# Altium footprint library DXPpcb.PCBLIB: 575 footprints (part 2 of 36)
Each footprint in its own frame and in the unit in brackets; x right, y up, seen from the top. Pads: shape width x height; smd on the part's side, far side on the other; paste and mask are expansions set on the pad; w line width, h text height; cw(c..) or ccw(c..) is an arc to the next point about the centre after c.
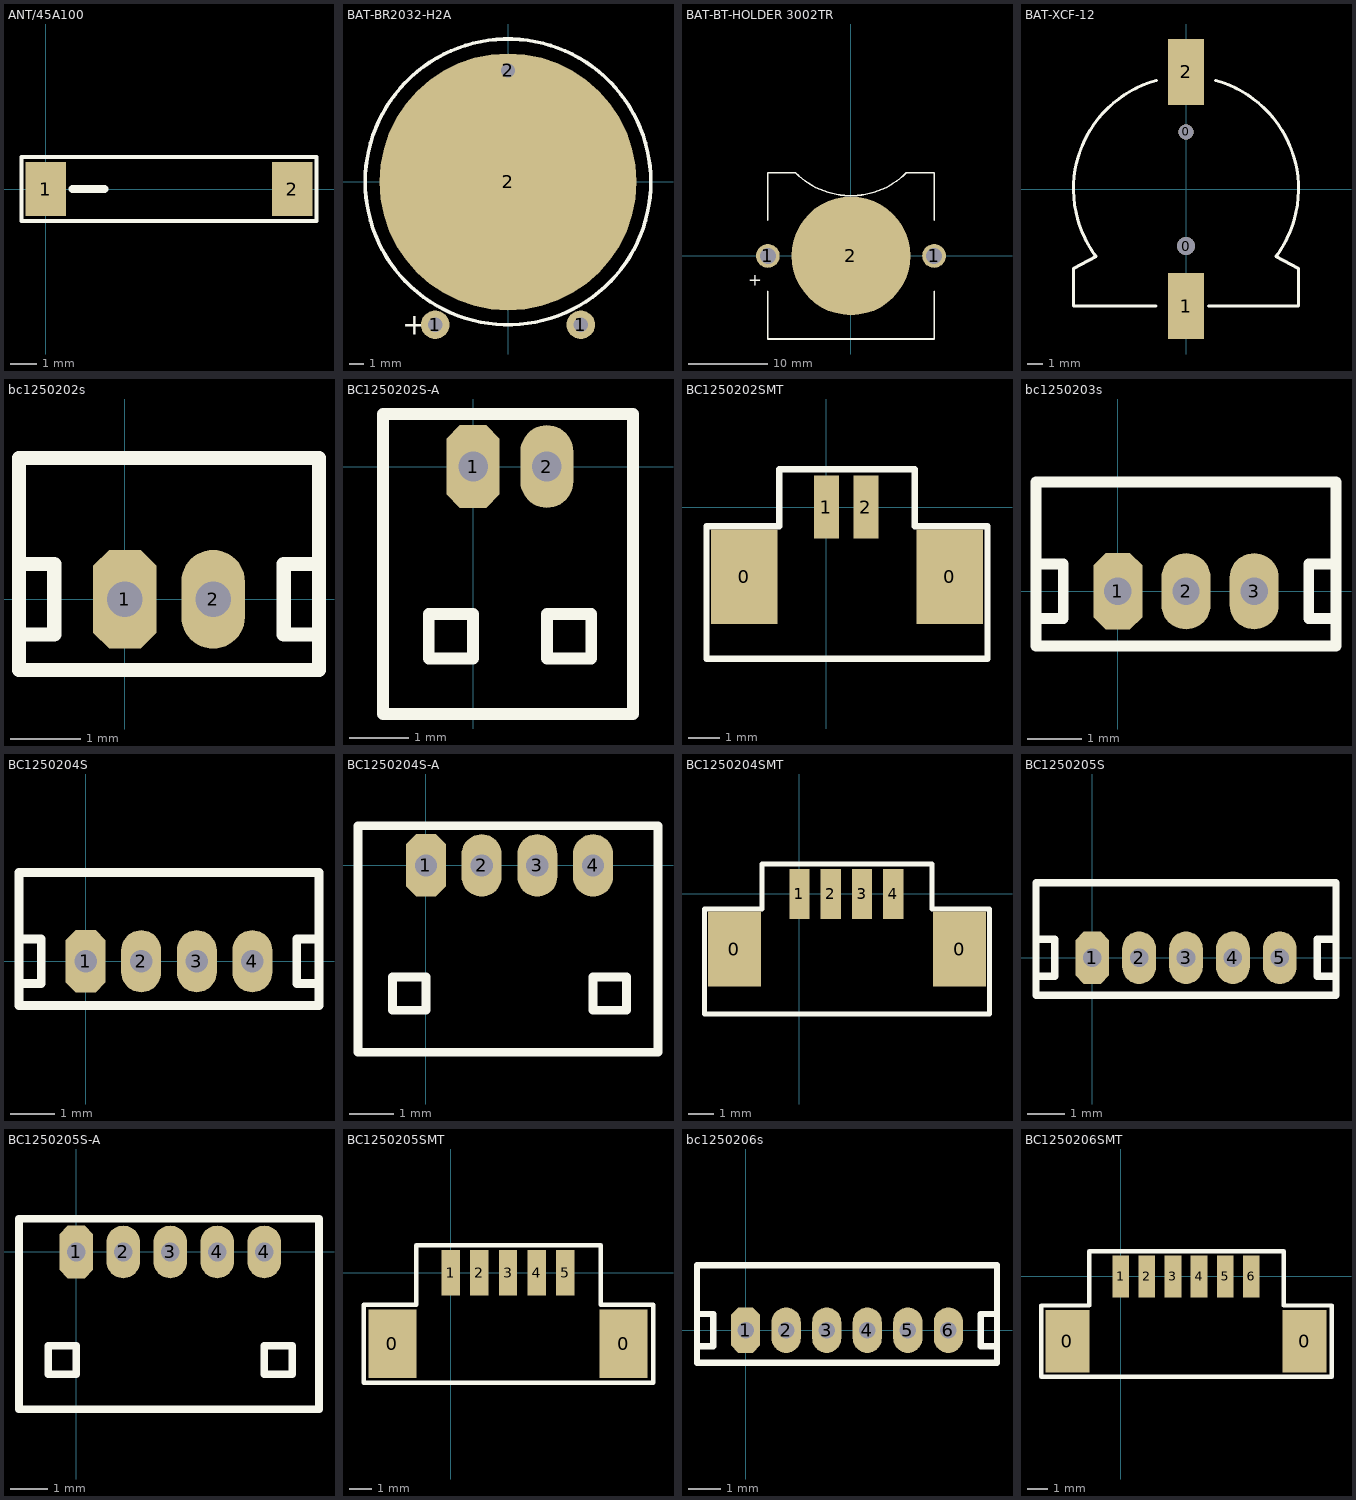
[diagram p1: the footprints below, top view; thin cyan lines are the x and y axes]

## ANT/45A100 [mm]
pads (2):
  rect 1.5x2 smd: 1(0,0) 2(9.2,0)
TopOverlay:
  lines w0.15: -0.9,-1.2 10.1,-1.2 10.1,1.2 -0.9,1.2 -0.9,-1.2
  lines w0.3: 1,0 2.2,0

## BAT-BR2032-H2A [mm]
pads (4):
  round 2 hole 1: 1(-5.1,-10) 1(5.1,-10) 2(0,7.8)
  round 18 smd: 2(0,0)
TopOverlay:
  circle w0.254: c0,0 r10
  text "+" at -7.4,-10.7 h1.5

## BAT-BT-HOLDER 3002TR [mm]
pads (3):
  round 3 hole 2: 1(-10.5,0) 1(10.5,0)
  round 15 smd: 2(0,0)
TopOverlay:
  lines w0.2: -10.5,-4.5 -10.5,-10.5 10.5,-10.5 10.5,-4.5 ; -10.5,4.5 -10.5,10.5 -7,10.5 ccw(c0,17.5) 7,10.5 10.5,10.5 10.5,4.5
  text "+" at -13,-3.8 h1.5

## BAT-XCF-12 [mm]
pads (4):
  round 1.2 hole 1.2: 0(0,-3.8)
  round 1 hole 1: 0(0,3.8)
  rect 2.4x4.4 smd: 1(0,-7.8) 2(0,7.8)
TopOverlay:
  lines w0.2: -2,-7.8 -7.5,-7.8 -7.5,-5.3 -6,-4.5 cw(c0,0) -1.982,7.233 ; 1.5,-7.8 7.5,-7.8 7.5,-5.3 6,-4.5 ccw(c0,0) 1.982,7.233

## bc1250202s [mm]
pads (2):
  oct 0.9x1.4 hole 0.5: 1(0,0)
  oval 0.9x1.4 hole 0.5: 2(1.25,0)
TopOverlay:
  lines w0.2: -1.5,-0.5 -1,-0.5 -1,0.5 -1.5,0.5 ; 2.75,-0.5 2.25,-0.5 2.25,0.5 2.75,0.5 ; -1.5,-1 -1.5,2 2.75,2 2.75,-1 -1.5,-1

## BC1250202S-A [mm]
pads (2):
  oct 0.9x1.4 hole 0.5: 1(0,0)
  oval 0.9x1.4 hole 0.5: 2(1.25,0)
TopOverlay:
  lines w0.2: -1.524,-4.191 2.707,-4.191 2.707,0.889 -1.524,0.889 -1.524,-4.191 ; -0.75,-3.25 0,-3.25 0,-2.5 -0.75,-2.5 -0.75,-3.25 ; 1.25,-3.25 2,-3.25 2,-2.5 1.25,-2.5 1.25,-3.25

## BC1250202SMT [mm]
pads (4):
  rect 2.1x3 smd: 0(-2.6,-2.2) 0(3.9,-2.2)
  rect 0.8x2 smd: 1(0,0) 2(1.25,0)
TopOverlay:
  lines w0.2: -3.8,-4.8 5.1,-4.8 5.1,-0.6 2.8,-0.6 2.8,1.2 -1.5,1.2 -1.5,-0.6 -3.8,-0.6 -3.8,-4.8

## bc1250203s [mm]
pads (3):
  oct 0.9x1.4 hole 0.5: 1(0,0)
  oval 0.9x1.4 hole 0.5: 2(1.25,0) 3(2.5,0)
TopOverlay:
  lines w0.2: -1.5,-0.5 -1,-0.5 -1,0.5 -1.5,0.5 ; 4,-0.5 3.5,-0.5 3.5,0.5 4,0.5 ; -1.5,-1 -1.5,2 4,2 4,-1 -1.5,-1

## BC1250204S [mm]
pads (4):
  oct 0.9x1.4 hole 0.5: 1(0,0)
  oval 0.9x1.4 hole 0.5: 2(1.25,0) 3(2.5,0) 4(3.75,0)
TopOverlay:
  lines w0.2: -1.5,-0.5 -1,-0.5 -1,0.5 -1.5,0.5 ; 5.2,-1 -1.5,-1 -1.5,2 5.2,2 ; 5.25,-1 5.25,2 ; 5.25,-0.5 4.75,-0.5 4.75,0.5 5.25,0.5

## BC1250204S-A [mm]
pads (4):
  oct 0.9x1.4 hole 0.5: 1(0,0)
  oval 0.9x1.4 hole 0.5: 2(1.25,0) 3(2.5,0) 4(3.75,0)
TopOverlay:
  lines w0.2: -1.524,-4.191 5.207,-4.191 5.207,0.889 -1.524,0.889 -1.524,-4.191 ; -0.75,-3.25 0,-3.25 0,-2.5 -0.75,-2.5 -0.75,-3.25 ; 3.75,-3.25 4.5,-3.25 4.5,-2.5 3.75,-2.5 3.75,-3.25

## BC1250204SMT [mm]
pads (6):
  rect 2.1x3 smd: 0(-2.6,-2.2) 0(6.4,-2.2)
  rect 0.8x2 smd: 1(0,0) 2(1.25,0) 3(2.5,0) 4(3.75,0)
TopOverlay:
  lines w0.2: -3.8,-4.8 -3.8,-0.6 -1.5,-0.6 -1.5,1.2 5.3,1.2 5.3,-0.6 7.6,-0.6 7.6,-4.8 -3.8,-4.8

## BC1250205S [mm]
pads (5):
  oct 0.9x1.4 hole 0.5: 1(0,0)
  oval 0.9x1.4 hole 0.5: 2(1.25,0) 3(2.5,0) 4(3.75,0) 5(5,0)
TopOverlay:
  lines w0.2: -1.5,-0.5 -1,-0.5 -1,0.5 -1.5,0.5 ; 6.5,-0.5 6,-0.5 6,0.5 6.5,0.5 ; -1.5,-1 -1.5,2 6.5,2 6.5,-1 -1.5,-1

## BC1250205S-A [mm]
pads (5):
  oct 0.9x1.4 hole 0.5: 1(0,0)
  oval 0.9x1.4 hole 0.5: 2(1.25,0) 3(2.5,0) 4(3.75,0) 4(5,0)
TopOverlay:
  lines w0.2: -1.524,-4.191 -1.524,0.889 6.457,0.889 6.457,-4.191 -1.524,-4.191 ; -0.75,-3.25 -0.75,-2.5 0,-2.5 0,-3.25 -0.75,-3.25 ; 5,-3.25 5.75,-3.25 5.75,-2.5 5,-2.5 5,-3.25

## BC1250205SMT [mm]
pads (7):
  rect 2.1x3 smd: 0(-2.55,-3.1) 0(7.55,-3.1)
  rect 0.8x2 smd: 1(0,0) 2(1.25,0) 3(2.5,0) 4(3.75,0) 5(5,0)
TopOverlay:
  lines w0.2: -3.8,-4.8 8.85,-4.8 8.85,-1.4 6.55,-1.4 6.55,1.2 -1.5,1.2 -1.5,-1.4 -3.8,-1.4 -3.8,-4.8

## bc1250206s [mm]
pads (6):
  oct 0.9x1.4 hole 0.5: 1(0,0)
  oval 0.9x1.4 hole 0.5: 2(1.25,0) 3(2.5,0) 4(3.75,0) 5(5,0) 6(6.25,0)
TopOverlay:
  lines w0.2: -1.5,-0.5 -1,-0.5 -1,0.5 -1.5,0.5 ; 7.75,-0.5 7.25,-0.5 7.25,0.5 7.75,0.5 ; -1.5,-1 7.75,-1 7.75,2 -1.5,2 -1.5,-1

## BC1250206SMT [mm]
pads (8):
  rect 2.1x3 smd: 0(-2.55,-3.1) 0(8.8,-3.1)
  rect 0.8x2 smd: 1(0,0) 2(1.25,0) 3(2.5,0) 4(3.75,0) 5(5,0) 6(6.25,0)
TopOverlay:
  lines w0.2: -3.8,-4.8 10.1,-4.8 10.1,-1.4 7.8,-1.4 7.8,1.2 -1.5,1.2 -1.5,-1.4 -3.8,-1.4 -3.8,-4.8